# EAGLE library part 9V_BATTERY_SOCKET (library MlabPaja)
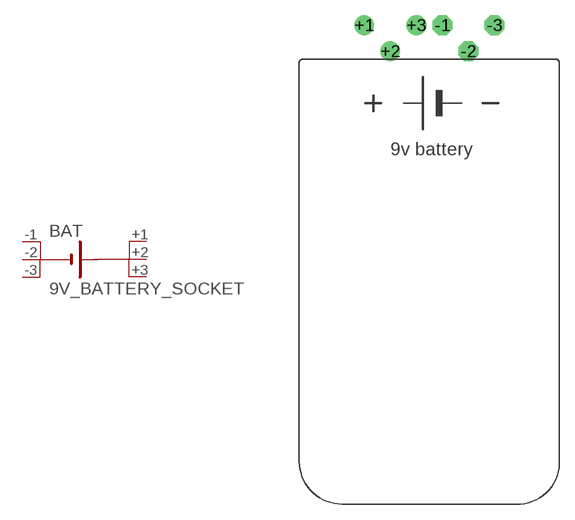
[diagram p1: symbol with the pads of 9V_BATTERY_SOCKET; footprint 9V_BATTERY_SOCKET]

Designator prefix BAT

## 9V_BATTERY_SOCKET  [9V_BATTERY_SOCKET]
+1  +1  pas
+2  +2  pas
+3  +3  pas
-1  -1  pas
-2  -2  pas
-3  -3  pas

## Footprint 9V_BATTERY_SOCKET (pad centres in mm)
drill 0.9 pad 1.93 round: +1 -7.62,30.48; +2 -5.08,27.94; +3 -2.54,30.48
drill 0.9 pad 1.93 octagon: -1 0,30.48; -2 2.54,27.94; -3 5.08,30.48